# Altium footprint library SMD Ceramic Capacitors.PcbLib: 6 footprints
Each footprint in its own frame and in the unit in brackets; x right, y up, seen from the top. Pads: shape width x height; smd on the part's side, far side on the other; paste and mask are expansions set on the pad; w line width, h text height; cw(c..) or ccw(c..) is an arc to the next point about the centre after c.
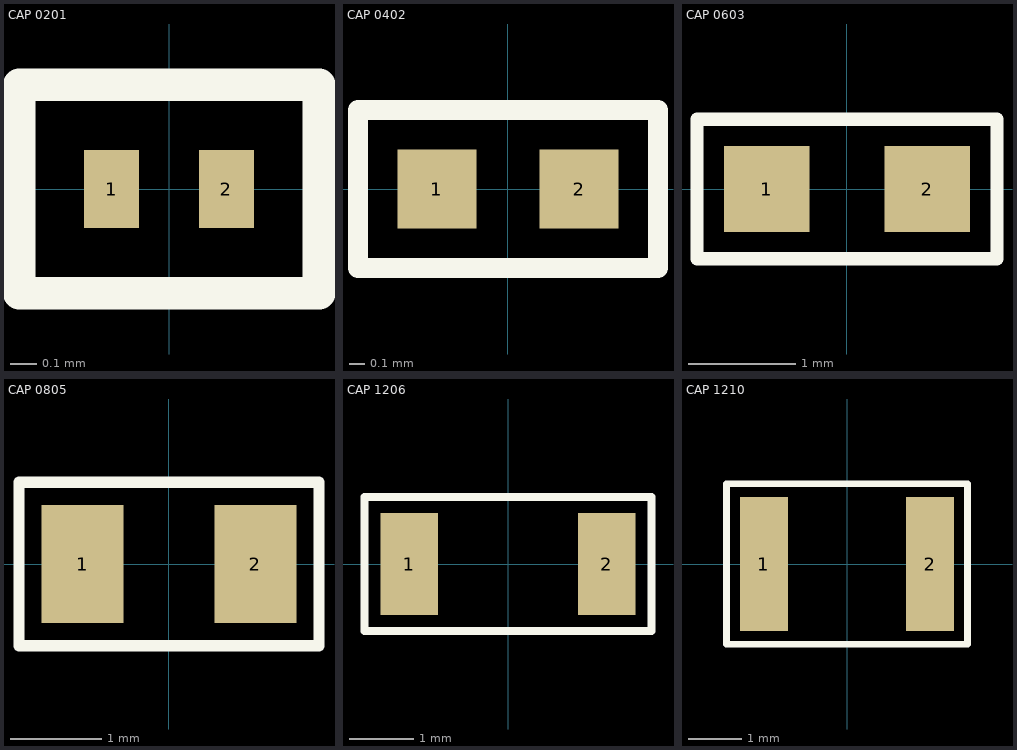
[diagram p0: the footprints below, top view; thin cyan lines are the x and y axes]

## CAP 0201 [mm]
pads (2):
  rect 0.21x0.3 smd: 1(-0.22,0) 2(0.22,0)
Top Overlay:
  lines w0.125: -0.575,-0.4 -0.575,0 -0.575,0.4 0.575,0.4 0.575,-0.4 -0.575,-0.4

## CAP 0402 [mm]
pads (2):
  rect 0.5x0.5 smd: 1(-0.45,0) 2(0.45,0)
Top Overlay:
  lines w0.125: -0.95,-0.5 -0.95,0 -0.95,0.5 0.95,0.5 0.95,-0.5 -0.95,-0.5

## CAP 0603 [mm]
pads (2):
  rect 0.8x0.8 smd: 1(-0.75,0) 2(0.75,0)
Top Overlay:
  lines w0.125: -1.4,-0.65 -1.4,0 -1.4,0.65 1.4,0.65 1.4,-0.65 -1.4,-0.65

## CAP 0805 [mm]
pads (2):
  rect 0.9x1.3 smd: 1(-0.95,0) 2(0.95,0)
Top Overlay:
  lines w0.125: -1.65,-0.9 1.65,-0.9 1.65,0.9 -1.65,0.9 -1.65,0 -1.65,-0.9

## CAP 1206 [mm]
pads (2):
  rect 0.9x1.6 smd: 1(-1.55,0) 2(1.55,0)
Top Overlay:
  lines w0.125: -2.25,-1.05 2.25,-1.05 2.25,1.05 -2.25,1.05 -2.25,0 -2.25,-1.05

## CAP 1210 [mm]
pads (2):
  rect 0.9x2.5 smd: 1(-1.55,0) 2(1.55,0)
Top Overlay:
  lines w0.125: -2.25,-1.5 -2.25,0 -2.25,1.5 2.25,1.5 2.25,-1.5 -2.25,-1.5